# Altium schematic symbol library MAX7219CWG&plus_T.SchLib: 1 symbol
Pins are listed as number, name and electrical type; pins without a type are passive.

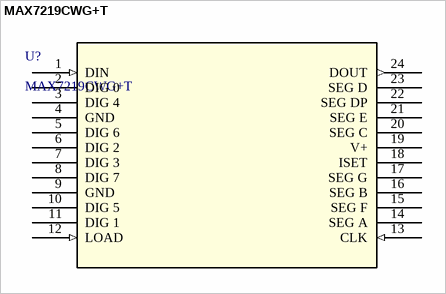
[diagram p0: symbol MAX7219CWG+T]

## MAX7219CWG+T
designator U?
Serially Interfaced, 8-Digit, LED Display Drivers; Manufacturer_Name: Analog Devices Inc; Copyright: Copyright (C) 2026 Ultra Librarian. All rights reserved.; Manufacturer_Part_Number: MAX7219CWG+T; RefDes: RefDes; Type: Type
footprint 21-0042B_24_MXM
pins: 1 DIN (in), 2 DIG 0, 3 DIG 4, 4 GND (power), 5 DIG 6, 6 DIG 2, 7 DIG 3, 8 DIG 7, 9 GND (power), 10 DIG 5, 11 DIG 1, 12 LOAD (in), 13 CLK (in), 14 SEG A, 15 SEG F, 16 SEG B, 17 SEG G, 18 ISET, 19 V+ (power), 20 SEG C, 21 SEG E, 22 SEG DP, 23 SEG D, 24 DOUT (out)